# Altium schematic symbol library Connectors.SchLib: 3 symbols
Pins are listed as number, name and electrical type; pins without a type are passive.

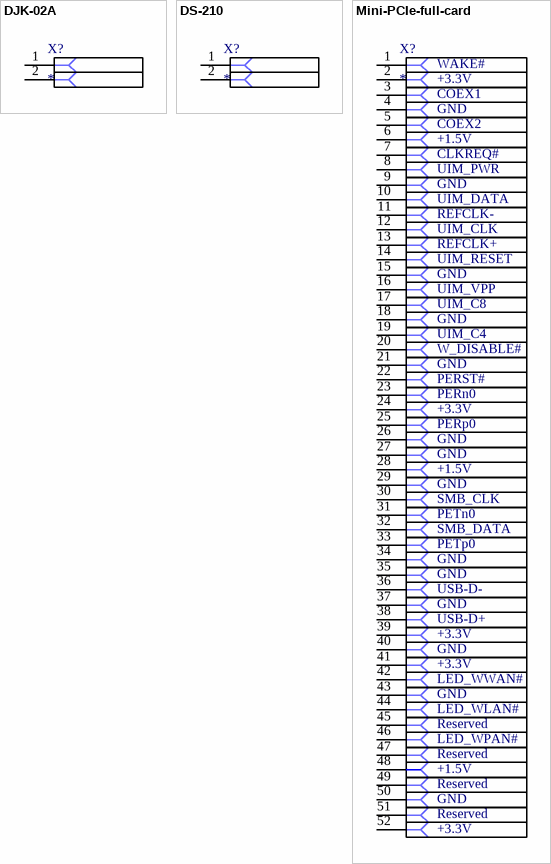
[diagram p0: symbols DJK-02A to Mini-PCIe-full-card]

## DJK-02A
designator X?
CONNECTOR; Описание: Разъем питания
footprint DJK-02A
pins: 1, 2

## DS-210
designator X?
CONNECTOR; Описание: Разъем питания DC; x: DS-210, DJK-02A
footprint DCPowerJack DS-210
pins: 1, 2

## Mini-PCIe-full-card
designator X?
CONNECTOR; Описание: Слот Mini-PCIe (full)
footprint Mini-PCIe-full-card
pins: 1, 2, 3, 4, 5, 6, 7, 8, 9, 10, 11, 12, 13, 14, 15, 16, 17, 18, 19, 20, 21, 22, 23, 24, 25, 26, 27, 28, 29, 30, 31, 32, 33, 34, 35, 36, 37, 38, 39, 40, 41, 42, 43, 44, 45, 46, 47, 48, 49, 50, 51, 52
text: WAKE#; +3.3V; COEX1; GND; COEX2; +1.5V; CLKREQ#; UIM_PWR; UIM_DATA; REFCLK-; UIM_CLK; REFCLK+; UIM_RESET; UIM_VPP; UIM_C8; UIM_C4; W_DISABLE#; PERST#; PERn0; PERp0; SMB_CLK; PETn0; SMB_DATA; PETp0; USB-D-; USB-D+; LED_WWAN#; LED_WLAN#; Reserved; LED_WPAN#